# Altium footprint library Connector_PinHeader_2.54mm.PcbLib: 278 footprints (part 6 of 18)
Each footprint in its own frame and in the unit in brackets; x right, y up, seen from the top. Pads: shape width x height; smd on the part's side, far side on the other; paste and mask are expansions set on the pad; w line width, h text height; cw(c..) or ccw(c..) is an arc to the next point about the centre after c.
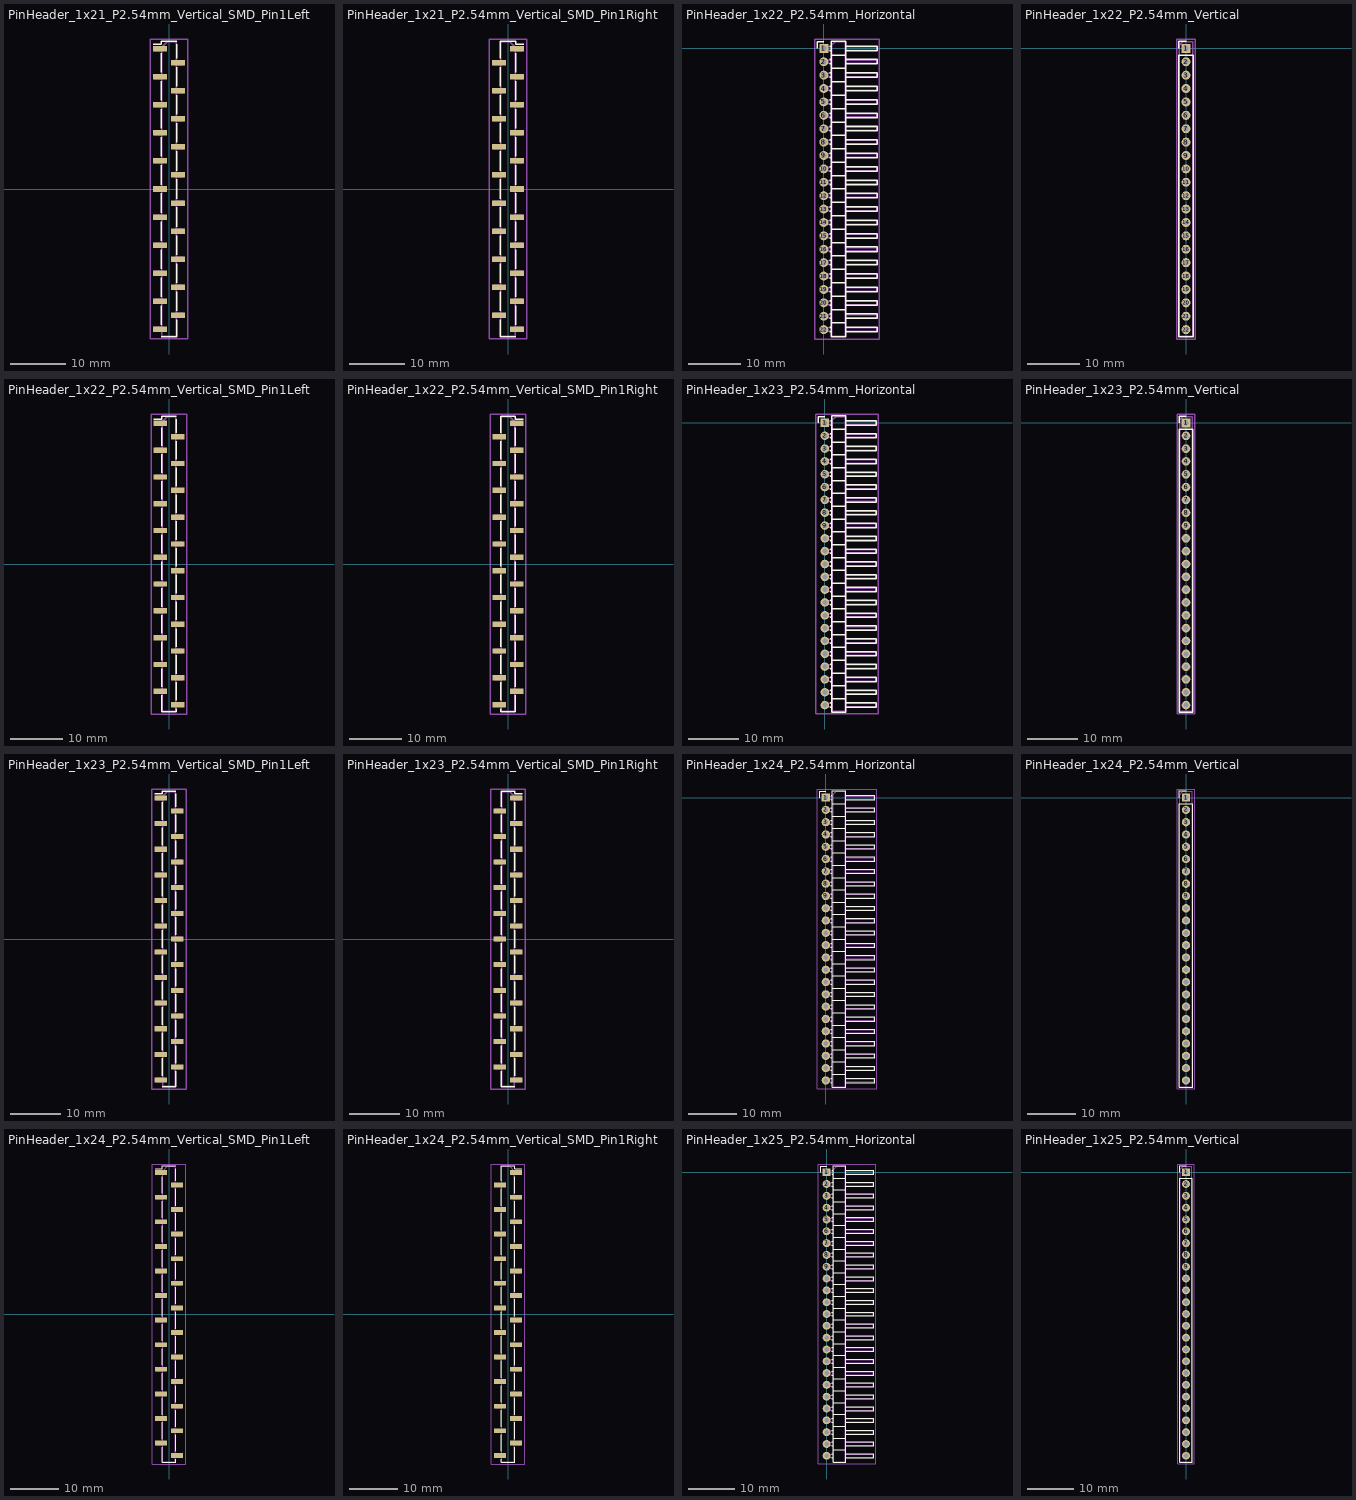
[diagram p5: the footprints below, top view; thin cyan lines are the x and y axes]

## PinHeader_1x21_P2.54mm_Vertical_SMD_Pin1Left [mm]
pads (21):
  rect 2.51x1 smd: 1(-1.655,25.4) 2(1.655,22.86) 3(-1.655,20.32) 4(1.655,17.78) 5(-1.655,15.24) 6(1.655,12.7) 7(-1.655,10.16) 8(1.655,7.62) 9(-1.655,5.08) 10(1.655,2.54) 11(-1.655,0) 12(1.655,-2.54) 13(-1.655,-5.08) 14(1.655,-7.62) 15(-1.655,-10.16) 16(1.655,-12.7) 17(-1.655,-15.24) 18(1.655,-17.78) 19(-1.655,-20.32) 20(1.655,-22.86) 21(-1.655,-25.4)
F.SilkS:
  lines w0.254: -2.85,26.21 -1.38,26.21 -1.38,26.78 1.38,26.78 ; -1.38,-26.78 1.38,-26.78 ; -1.38,-24.59 -1.38,-21.13 ; -1.38,-19.51 -1.38,-16.05 ; -1.38,-14.43 -1.38,-10.97 ; -1.38,-9.35 -1.38,-5.89 ; -1.38,-4.27 -1.38,-0.81 ; -1.38,0.81 -1.38,4.27 ; -1.38,5.89 -1.38,9.35 ; -1.38,10.97 -1.38,14.43 ; -1.38,16.05 -1.38,19.51 ; -1.38,21.13 -1.38,24.59 ; 1.38,-26.21 1.38,-26.78 ; 1.38,-23.67 1.38,-26.78 ; 1.38,-22.05 1.38,-18.59 ; 1.38,-16.97 1.38,-13.51 ; 1.38,-11.89 1.38,-8.43 ; 1.38,-6.81 1.38,-3.35 ; 1.38,-1.73 1.38,1.73 ; 1.38,3.35 1.38,6.81 ; 1.38,8.43 1.38,11.89 ; 1.38,13.51 1.38,16.97 ; 1.38,18.59 1.38,22.05 ; 1.38,23.67 1.38,26.21
Top Assembly:
  lines w0.254: -1.27,-25.72 -2.54,-25.72 -2.54,-25.08 -1.27,-25.08 ; -1.27,-20.64 -2.54,-20.64 -2.54,-20 -1.27,-20 ; -1.27,-15.56 -2.54,-15.56 -2.54,-14.92 -1.27,-14.92 ; -1.27,-10.48 -2.54,-10.48 -2.54,-9.84 -1.27,-9.84 ; -1.27,-5.4 -2.54,-5.4 -2.54,-4.76 -1.27,-4.76 ; -1.27,-0.32 -2.54,-0.32 -2.54,0.32 -1.27,0.32 ; -1.27,4.76 -2.54,4.76 -2.54,5.4 -1.27,5.4 ; -1.27,9.84 -2.54,9.84 -2.54,10.48 -1.27,10.48 ; -1.27,14.92 -2.54,14.92 -2.54,15.56 -1.27,15.56 ; -1.27,20 -2.54,20 -2.54,20.64 -1.27,20.64 ; -1.27,25.08 -2.54,25.08 -2.54,25.72 -1.27,25.72 ; 1.27,-23.18 2.54,-23.18 2.54,-22.54 1.27,-22.54 ; 1.27,-18.1 2.54,-18.1 2.54,-17.46 1.27,-17.46 ; 1.27,-13.02 2.54,-13.02 2.54,-12.38 1.27,-12.38 ; 1.27,-7.94 2.54,-7.94 2.54,-7.3 1.27,-7.3 ; 1.27,-2.86 2.54,-2.86 2.54,-2.22 1.27,-2.22 ; 1.27,2.22 2.54,2.22 2.54,2.86 1.27,2.86 ; 1.27,7.3 2.54,7.3 2.54,7.94 1.27,7.94 ; 1.27,12.38 2.54,12.38 2.54,13.02 1.27,13.02 ; 1.27,17.46 2.54,17.46 2.54,18.1 1.27,18.1 ; 1.27,22.54 2.54,22.54 2.54,23.18 1.27,23.18 ; -1.27,25.72 -1.27,-26.67 1.27,-26.67 1.27,26.67 -0.32,26.67 -1.27,25.72
  text "'.Designator'" at 0.84,-4.047 h1
Top Courtyard:
  lines w0.254: -3.41,-27.17 3.41,-27.17 3.41,27.17 -3.41,27.17 -3.41,-27.17
Top Designator:
  text ".Designator" at -7.618,-0.508 h1.52

## PinHeader_1x21_P2.54mm_Vertical_SMD_Pin1Right [mm]
pads (21):
  rect 2.51x1 smd: 1(1.655,25.4) 2(-1.655,22.86) 3(1.655,20.32) 4(-1.655,17.78) 5(1.655,15.24) 6(-1.655,12.7) 7(1.655,10.16) 8(-1.655,7.62) 9(1.655,5.08) 10(-1.655,2.54) 11(1.655,0) 12(-1.655,-2.54) 13(1.655,-5.08) 14(-1.655,-7.62) 15(1.655,-10.16) 16(-1.655,-12.7) 17(1.655,-15.24) 18(-1.655,-17.78) 19(1.655,-20.32) 20(-1.655,-22.86) 21(1.655,-25.4)
F.SilkS:
  lines w0.254: -1.38,-26.21 -1.38,-26.78 ; -1.38,-23.67 -1.38,-26.78 ; -1.38,-22.05 -1.38,-18.59 ; -1.38,-16.97 -1.38,-13.51 ; -1.38,-11.89 -1.38,-8.43 ; -1.38,-6.81 -1.38,-3.35 ; -1.38,-1.73 -1.38,1.73 ; -1.38,3.35 -1.38,6.81 ; -1.38,8.43 -1.38,11.89 ; -1.38,13.51 -1.38,16.97 ; -1.38,18.59 -1.38,22.05 ; -1.38,26.21 -1.38,23.67 -1.38,26.78 1.38,26.78 1.38,26.21 2.85,26.21 ; 1.38,-26.78 -1.38,-26.78 ; 1.38,-24.59 1.38,-21.13 ; 1.38,-19.51 1.38,-16.05 ; 1.38,-14.43 1.38,-10.97 ; 1.38,-9.35 1.38,-5.89 ; 1.38,-4.27 1.38,-0.81 ; 1.38,0.81 1.38,4.27 ; 1.38,5.89 1.38,9.35 ; 1.38,10.97 1.38,14.43 ; 1.38,16.05 1.38,19.51 ; 1.38,21.13 1.38,24.59
Top Assembly:
  lines w0.254: -1.27,-23.18 -2.54,-23.18 -2.54,-22.54 -1.27,-22.54 ; -1.27,-18.1 -2.54,-18.1 -2.54,-17.46 -1.27,-17.46 ; -1.27,-13.02 -2.54,-13.02 -2.54,-12.38 -1.27,-12.38 ; -1.27,-7.94 -2.54,-7.94 -2.54,-7.3 -1.27,-7.3 ; -1.27,-2.86 -2.54,-2.86 -2.54,-2.22 -1.27,-2.22 ; -1.27,2.22 -2.54,2.22 -2.54,2.86 -1.27,2.86 ; -1.27,7.3 -2.54,7.3 -2.54,7.94 -1.27,7.94 ; -1.27,12.38 -2.54,12.38 -2.54,13.02 -1.27,13.02 ; -1.27,17.46 -2.54,17.46 -2.54,18.1 -1.27,18.1 ; -1.27,22.54 -2.54,22.54 -2.54,23.18 -1.27,23.18 ; 1.27,-25.72 2.54,-25.72 2.54,-25.08 1.27,-25.08 ; 1.27,-20.64 2.54,-20.64 2.54,-20 1.27,-20 ; 1.27,-15.56 2.54,-15.56 2.54,-14.92 1.27,-14.92 ; 1.27,-10.48 2.54,-10.48 2.54,-9.84 1.27,-9.84 ; 1.27,-5.4 2.54,-5.4 2.54,-4.76 1.27,-4.76 ; 1.27,-0.32 2.54,-0.32 2.54,0.32 1.27,0.32 ; 1.27,4.76 2.54,4.76 2.54,5.4 1.27,5.4 ; 1.27,9.84 2.54,9.84 2.54,10.48 1.27,10.48 ; 1.27,14.92 2.54,14.92 2.54,15.56 1.27,15.56 ; 1.27,20 2.54,20 2.54,20.64 1.27,20.64 ; 1.27,25.08 2.54,25.08 2.54,25.72 1.27,25.72 ; 1.27,25.72 1.27,-26.67 -1.27,-26.67 -1.27,26.67 0.32,26.67 1.27,25.72
  text "'.Designator'" at 0.84,-4.047 h1
Top Courtyard:
  lines w0.254: -3.41,-27.17 3.41,-27.17 3.41,27.17 -3.41,27.17 -3.41,-27.17
Top Designator:
  text ".Designator" at -7.618,-0.508 h1.52

## PinHeader_1x22_P2.54mm_Horizontal [mm]
pads (22):
  rect 1.7x1.7 hole 1: 1(0,0)
  round 1.7 hole 1: 2(0,-2.54) 3(0,-5.08) 4(0,-7.62) 5(0,-10.16) 6(0,-12.7) 7(0,-15.24) 8(0,-17.78) 9(0,-20.32) 10(0,-22.86) 11(0,-25.4) 12(0,-27.94) 13(0,-30.48) 14(0,-33.02) 15(0,-35.56) 16(0,-38.1) 17(0,-40.64) 18(0,-43.18) 19(0,-45.72) 20(0,-48.26) 21(0,-50.8) 22(0,-53.34)
F.SilkS:
  lines w0.254: -1.27,0 -1.27,1.27 0,1.27 ; 1.077,-53.77 1.39,-53.77 ; 1.077,-52.91 1.39,-52.91 ; 1.077,-51.23 1.39,-51.23 ; 1.077,-50.37 1.39,-50.37 ; 1.077,-48.69 1.39,-48.69 ; 1.077,-47.83 1.39,-47.83 ; 1.077,-46.15 1.39,-46.15 ; 1.077,-45.29 1.39,-45.29 ; 1.077,-43.61 1.39,-43.61 ; 1.077,-42.75 1.39,-42.75 ; 1.077,-41.07 1.39,-41.07 ; 1.077,-40.21 1.39,-40.21 ; 1.077,-38.53 1.39,-38.53 ; 1.077,-37.67 1.39,-37.67 ; 1.077,-35.99 1.39,-35.99 ; 1.077,-35.13 1.39,-35.13 ; 1.077,-33.45 1.39,-33.45 ; 1.077,-32.59 1.39,-32.59 ; 1.077,-30.91 1.39,-30.91 ; 1.077,-30.05 1.39,-30.05 ; 1.077,-28.37 1.39,-28.37 ; 1.077,-27.51 1.39,-27.51 ; 1.077,-25.83 1.39,-25.83 ; 1.077,-24.97 1.39,-24.97 ; 1.077,-23.29 1.39,-23.29 ; 1.077,-22.43 1.39,-22.43 ; 1.077,-20.75 1.39,-20.75 ; 1.077,-19.89 1.39,-19.89 ; 1.077,-18.21 1.39,-18.21 ; 1.077,-17.35 1.39,-17.35 ; 1.077,-15.67 1.39,-15.67 ; 1.077,-14.81 1.39,-14.81 ; 1.077,-13.13 1.39,-13.13 ; 1.077,-12.27 1.39,-12.27 ; 1.077,-10.59 1.39,-10.59 ; 1.077,-9.73 1.39,-9.73 ; 1.077,-8.05 1.39,-8.05 ; 1.077,-7.19 1.39,-7.19 ; 1.077,-5.51 1.39,-5.51 ; 1.077,-4.65 1.39,-4.65 ; 1.077,-2.97 1.39,-2.97 ; 1.077,-2.11 1.39,-2.11 ; 1.16,-0.43 1.39,-0.43 ; 1.16,0.43 1.39,0.43 ; 1.39,-52.07 4.15,-52.07 ; 1.39,-49.53 4.15,-49.53 ; 1.39,-46.99 4.15,-46.99 ; 1.39,-44.45 4.15,-44.45 ; 1.39,-41.91 4.15,-41.91 ; 1.39,-39.37 4.15,-39.37 ; 1.39,-36.83 4.15,-36.83 ; 1.39,-34.29 4.15,-34.29 ; 1.39,-31.75 4.15,-31.75 ; 1.39,-29.21 4.15,-29.21 ; 1.39,-26.67 4.15,-26.67 ; 1.39,-24.13 4.15,-24.13 ; 1.39,-21.59 4.15,-21.59 ; 1.39,-19.05 4.15,-19.05 ; 1.39,-16.51 4.15,-16.51 ; 1.39,-13.97 4.15,-13.97 ; 1.39,-11.43 4.15,-11.43 ; 1.39,-8.89 4.15,-8.89 ; 1.39,-6.35 4.15,-6.35 ; 1.39,-3.81 4.15,-3.81 ; 1.39,-1.27 4.15,-1.27 ; 4.15,-53.77 10.15,-53.77 10.15,-52.91 4.15,-52.91 ; 4.15,-51.23 10.15,-51.23 10.15,-50.37 4.15,-50.37 ; 4.15,-48.69 10.15,-48.69 10.15,-47.83 4.15,-47.83 ; 4.15,-46.15 10.15,-46.15 10.15,-45.29 4.15,-45.29 ; 4.15,-43.61 10.15,-43.61 10.15,-42.75 4.15,-42.75 ; 4.15,-41.07 10.15,-41.07 10.15,-40.21 4.15,-40.21 ; 4.15,-38.53 10.15,-38.53 10.15,-37.67 4.15,-37.67 ; 4.15,-35.99 10.15,-35.99 10.15,-35.13 4.15,-35.13 ; 4.15,-33.45 10.15,-33.45 10.15,-32.59 4.15,-32.59 ; 4.15,-30.91 10.15,-30.91 10.15,-30.05 4.15,-30.05 ; 4.15,-28.37 10.15,-28.37 10.15,-27.51 4.15,-27.51 ; 4.15,-25.83 10.15,-25.83 10.15,-24.97 4.15,-24.97 ; 4.15,-23.29 10.15,-23.29 10.15,-22.43 4.15,-22.43 ; 4.15,-20.75 10.15,-20.75 10.15,-19.89 4.15,-19.89 ; 4.15,-18.21 10.15,-18.21 10.15,-17.35 4.15,-17.35 ; 4.15,-15.67 10.15,-15.67 10.15,-14.81 4.15,-14.81 ; 4.15,-13.13 10.15,-13.13 10.15,-12.27 4.15,-12.27 ; 4.15,-10.59 10.15,-10.59 10.15,-9.73 4.15,-9.73 ; 4.15,-8.05 10.15,-8.05 10.15,-7.19 4.15,-7.19 ; 4.15,-5.51 10.15,-5.51 10.15,-4.65 4.15,-4.65 ; 4.15,-2.97 10.15,-2.97 10.15,-2.11 4.15,-2.11 ; 1.39,-54.72 4.15,-54.72 4.15,1.38 1.39,1.38 1.39,-54.72 ; 4.15,-0.43 10.15,-0.43 10.15,0.43 4.15,0.43 4.15,-0.43
Top Assembly:
  lines w0.254: 1.5,-53.66 -0.32,-53.66 -0.32,-53.02 1.5,-53.02 ; 1.5,-51.12 -0.32,-51.12 -0.32,-50.48 1.5,-50.48 ; 1.5,-48.58 -0.32,-48.58 -0.32,-47.94 1.5,-47.94 ; 1.5,-46.04 -0.32,-46.04 -0.32,-45.4 1.5,-45.4 ; 1.5,-43.5 -0.32,-43.5 -0.32,-42.86 1.5,-42.86 ; 1.5,-40.96 -0.32,-40.96 -0.32,-40.32 1.5,-40.32 ; 1.5,-38.42 -0.32,-38.42 -0.32,-37.78 1.5,-37.78 ; 1.5,-35.88 -0.32,-35.88 -0.32,-35.24 1.5,-35.24 ; 1.5,-33.34 -0.32,-33.34 -0.32,-32.7 1.5,-32.7 ; 1.5,-30.8 -0.32,-30.8 -0.32,-30.16 1.5,-30.16 ; 1.5,-28.26 -0.32,-28.26 -0.32,-27.62 1.5,-27.62 ; 1.5,-25.72 -0.32,-25.72 -0.32,-25.08 1.5,-25.08 ; 1.5,-23.18 -0.32,-23.18 -0.32,-22.54 1.5,-22.54 ; 1.5,-20.64 -0.32,-20.64 -0.32,-20 1.5,-20 ; 1.5,-18.1 -0.32,-18.1 -0.32,-17.46 1.5,-17.46 ; 1.5,-15.56 -0.32,-15.56 -0.32,-14.92 1.5,-14.92 ; 1.5,-13.02 -0.32,-13.02 -0.32,-12.38 1.5,-12.38 ; 1.5,-10.48 -0.32,-10.48 -0.32,-9.84 1.5,-9.84 ; 1.5,-7.94 -0.32,-7.94 -0.32,-7.3 1.5,-7.3 ; 1.5,-5.4 -0.32,-5.4 -0.32,-4.76 1.5,-4.76 ; 1.5,-2.86 -0.32,-2.86 -0.32,-2.22 1.5,-2.22 ; 1.5,-0.32 -0.32,-0.32 -0.32,0.32 1.5,0.32 ; 4.04,-53.66 10.04,-53.66 10.04,-53.02 4.04,-53.02 ; 4.04,-51.12 10.04,-51.12 10.04,-50.48 4.04,-50.48 ; 4.04,-48.58 10.04,-48.58 10.04,-47.94 4.04,-47.94 ; 4.04,-46.04 10.04,-46.04 10.04,-45.4 4.04,-45.4 ; 4.04,-43.5 10.04,-43.5 10.04,-42.86 4.04,-42.86 ; 4.04,-40.96 10.04,-40.96 10.04,-40.32 4.04,-40.32 ; 4.04,-38.42 10.04,-38.42 10.04,-37.78 4.04,-37.78 ; 4.04,-35.88 10.04,-35.88 10.04,-35.24 4.04,-35.24 ; 4.04,-33.34 10.04,-33.34 10.04,-32.7 4.04,-32.7 ; 4.04,-30.8 10.04,-30.8 10.04,-30.16 4.04,-30.16 ; 4.04,-28.26 10.04,-28.26 10.04,-27.62 4.04,-27.62 ; 4.04,-25.72 10.04,-25.72 10.04,-25.08 4.04,-25.08 ; 4.04,-23.18 10.04,-23.18 10.04,-22.54 4.04,-22.54 ; 4.04,-20.64 10.04,-20.64 10.04,-20 4.04,-20 ; 4.04,-18.1 10.04,-18.1 10.04,-17.46 4.04,-17.46 ; 4.04,-15.56 10.04,-15.56 10.04,-14.92 4.04,-14.92 ; 4.04,-13.02 10.04,-13.02 10.04,-12.38 4.04,-12.38 ; 4.04,-10.48 10.04,-10.48 10.04,-9.84 4.04,-9.84 ; 4.04,-7.94 10.04,-7.94 10.04,-7.3 4.04,-7.3 ; 4.04,-5.4 10.04,-5.4 10.04,-4.76 4.04,-4.76 ; 4.04,-2.86 10.04,-2.86 10.04,-2.22 4.04,-2.22 ; 4.04,-0.32 10.04,-0.32 10.04,0.32 4.04,0.32 ; 1.5,-54.61 4.04,-54.61 4.04,1.27 2.135,1.27 1.5,0.635 1.5,-54.61
  text "'.Designator'" at 3.61,-30.717 h1
Top Courtyard:
  lines w0.254: -1.77,-55.12 10.54,-55.12 10.54,1.77 -1.77,1.77 -1.77,-55.12
Top Designator:
  text ".Designator" at -3.233,-27.183 h1.52

## PinHeader_1x22_P2.54mm_Vertical [mm]
pads (22):
  rect 1.7x1.7 hole 1: 1(0,0)
  round 1.7 hole 1: 2(0,-2.54) 3(0,-5.08) 4(0,-7.62) 5(0,-10.16) 6(0,-12.7) 7(0,-15.24) 8(0,-17.78) 9(0,-20.32) 10(0,-22.86) 11(0,-25.4) 12(0,-27.94) 13(0,-30.48) 14(0,-33.02) 15(0,-35.56) 16(0,-38.1) 17(0,-40.64) 18(0,-43.18) 19(0,-45.72) 20(0,-48.26) 21(0,-50.8) 22(0,-53.34)
F.SilkS:
  lines w0.254: -1.38,0 -1.38,1.38 0,1.38 ; -1.38,-54.72 1.38,-54.72 1.38,-1.27 -1.38,-1.27 -1.38,-54.72
Top Assembly:
  lines w0.254: -1.27,-54.61 1.27,-54.61 1.27,1.27 -0.635,1.27 -1.27,0.635 -1.27,-54.61
  text "'.Designator'" at 0.84,-30.717 h1
Top Courtyard:
  lines w0.254: -1.77,-55.12 1.77,-55.12 1.77,1.78 -1.77,1.78 -1.77,-55.12
Top Designator:
  text ".Designator" at -7.618,-27.178 h1.52

## PinHeader_1x22_P2.54mm_Vertical_SMD_Pin1Left [mm]
pads (22):
  rect 2.51x1 smd: 1(-1.655,26.67) 2(1.655,24.13) 3(-1.655,21.59) 4(1.655,19.05) 5(-1.655,16.51) 6(1.655,13.97) 7(-1.655,11.43) 8(1.655,8.89) 9(-1.655,6.35) 10(1.655,3.81) 11(-1.655,1.27) 12(1.655,-1.27) 13(-1.655,-3.81) 14(1.655,-6.35) 15(-1.655,-8.89) 16(1.655,-11.43) 17(-1.655,-13.97) 18(1.655,-16.51) 19(-1.655,-19.05) 20(1.655,-21.59) 21(-1.655,-24.13) 22(1.655,-26.67)
F.SilkS:
  lines w0.254: -2.85,27.48 -1.38,27.48 -1.38,28.05 1.38,28.05 ; -1.38,-24.94 -1.38,-28.05 1.38,-28.05 1.38,-27.48 ; -1.38,-23.32 -1.38,-19.86 ; -1.38,-18.24 -1.38,-14.78 ; -1.38,-13.16 -1.38,-9.7 ; -1.38,-8.08 -1.38,-4.62 ; -1.38,-3 -1.38,0.46 ; -1.38,2.08 -1.38,5.54 ; -1.38,7.16 -1.38,10.62 ; -1.38,12.24 -1.38,15.7 ; -1.38,17.32 -1.38,20.78 ; -1.38,22.4 -1.38,25.86 ; 1.38,-25.86 1.38,-22.4 ; 1.38,-20.78 1.38,-17.32 ; 1.38,-15.7 1.38,-12.24 ; 1.38,-10.62 1.38,-7.16 ; 1.38,-5.54 1.38,-2.08 ; 1.38,-0.46 1.38,3 ; 1.38,4.62 1.38,8.08 ; 1.38,9.7 1.38,13.16 ; 1.38,14.78 1.38,18.24 ; 1.38,19.86 1.38,23.32 ; 1.38,24.94 1.38,27.48
Top Assembly:
  lines w0.254: -1.27,-24.45 -2.54,-24.45 -2.54,-23.81 -1.27,-23.81 ; -1.27,-19.37 -2.54,-19.37 -2.54,-18.73 -1.27,-18.73 ; -1.27,-14.29 -2.54,-14.29 -2.54,-13.65 -1.27,-13.65 ; -1.27,-9.21 -2.54,-9.21 -2.54,-8.57 -1.27,-8.57 ; -1.27,-4.13 -2.54,-4.13 -2.54,-3.49 -1.27,-3.49 ; -1.27,0.95 -2.54,0.95 -2.54,1.59 -1.27,1.59 ; -1.27,6.03 -2.54,6.03 -2.54,6.67 -1.27,6.67 ; -1.27,11.11 -2.54,11.11 -2.54,11.75 -1.27,11.75 ; -1.27,16.19 -2.54,16.19 -2.54,16.83 -1.27,16.83 ; -1.27,21.27 -2.54,21.27 -2.54,21.91 -1.27,21.91 ; -1.27,26.35 -2.54,26.35 -2.54,26.99 -1.27,26.99 ; 1.27,-26.99 2.54,-26.99 2.54,-26.35 1.27,-26.35 ; 1.27,-21.91 2.54,-21.91 2.54,-21.27 1.27,-21.27 ; 1.27,-16.83 2.54,-16.83 2.54,-16.19 1.27,-16.19 ; 1.27,-11.75 2.54,-11.75 2.54,-11.11 1.27,-11.11 ; 1.27,-6.67 2.54,-6.67 2.54,-6.03 1.27,-6.03 ; 1.27,-1.59 2.54,-1.59 2.54,-0.95 1.27,-0.95 ; 1.27,3.49 2.54,3.49 2.54,4.13 1.27,4.13 ; 1.27,8.57 2.54,8.57 2.54,9.21 1.27,9.21 ; 1.27,13.65 2.54,13.65 2.54,14.29 1.27,14.29 ; 1.27,18.73 2.54,18.73 2.54,19.37 1.27,19.37 ; 1.27,23.81 2.54,23.81 2.54,24.45 1.27,24.45 ; -1.27,26.99 -1.27,-27.94 1.27,-27.94 1.27,27.94 -0.32,27.94 -1.27,26.99
  text "'.Designator'" at 0.84,-4.047 h1
Top Courtyard:
  lines w0.254: -3.41,-28.45 3.41,-28.45 3.41,28.45 -3.41,28.45 -3.41,-28.45
Top Designator:
  text ".Designator" at -7.618,-0.508 h1.52

## PinHeader_1x22_P2.54mm_Vertical_SMD_Pin1Right [mm]
pads (22):
  rect 2.51x1 smd: 1(1.655,26.67) 2(-1.655,24.13) 3(1.655,21.59) 4(-1.655,19.05) 5(1.655,16.51) 6(-1.655,13.97) 7(1.655,11.43) 8(-1.655,8.89) 9(1.655,6.35) 10(-1.655,3.81) 11(1.655,1.27) 12(-1.655,-1.27) 13(1.655,-3.81) 14(-1.655,-6.35) 15(1.655,-8.89) 16(-1.655,-11.43) 17(1.655,-13.97) 18(-1.655,-16.51) 19(1.655,-19.05) 20(-1.655,-21.59) 21(1.655,-24.13) 22(-1.655,-26.67)
F.SilkS:
  lines w0.254: -1.38,-27.48 -1.38,-28.05 1.38,-28.05 1.38,-24.94 ; -1.38,-25.86 -1.38,-22.4 ; -1.38,-20.78 -1.38,-17.32 ; -1.38,-15.7 -1.38,-12.24 ; -1.38,-10.62 -1.38,-7.16 ; -1.38,-5.54 -1.38,-2.08 ; -1.38,-0.46 -1.38,3 ; -1.38,4.62 -1.38,8.08 ; -1.38,9.7 -1.38,13.16 ; -1.38,14.78 -1.38,18.24 ; -1.38,19.86 -1.38,23.32 ; -1.38,27.48 -1.38,24.94 -1.38,28.05 1.38,28.05 1.38,27.48 2.85,27.48 ; 1.38,-23.32 1.38,-19.86 ; 1.38,-18.24 1.38,-14.78 ; 1.38,-13.16 1.38,-9.7 ; 1.38,-8.08 1.38,-4.62 ; 1.38,-3 1.38,0.46 ; 1.38,2.08 1.38,5.54 ; 1.38,7.16 1.38,10.62 ; 1.38,12.24 1.38,15.7 ; 1.38,17.32 1.38,20.78 ; 1.38,22.4 1.38,25.86
Top Assembly:
  lines w0.254: -1.27,-26.99 -2.54,-26.99 -2.54,-26.35 -1.27,-26.35 ; -1.27,-21.91 -2.54,-21.91 -2.54,-21.27 -1.27,-21.27 ; -1.27,-16.83 -2.54,-16.83 -2.54,-16.19 -1.27,-16.19 ; -1.27,-11.75 -2.54,-11.75 -2.54,-11.11 -1.27,-11.11 ; -1.27,-6.67 -2.54,-6.67 -2.54,-6.03 -1.27,-6.03 ; -1.27,-1.59 -2.54,-1.59 -2.54,-0.95 -1.27,-0.95 ; -1.27,3.49 -2.54,3.49 -2.54,4.13 -1.27,4.13 ; -1.27,8.57 -2.54,8.57 -2.54,9.21 -1.27,9.21 ; -1.27,13.65 -2.54,13.65 -2.54,14.29 -1.27,14.29 ; -1.27,18.73 -2.54,18.73 -2.54,19.37 -1.27,19.37 ; -1.27,23.81 -2.54,23.81 -2.54,24.45 -1.27,24.45 ; 1.27,-24.45 2.54,-24.45 2.54,-23.81 1.27,-23.81 ; 1.27,-19.37 2.54,-19.37 2.54,-18.73 1.27,-18.73 ; 1.27,-14.29 2.54,-14.29 2.54,-13.65 1.27,-13.65 ; 1.27,-9.21 2.54,-9.21 2.54,-8.57 1.27,-8.57 ; 1.27,-4.13 2.54,-4.13 2.54,-3.49 1.27,-3.49 ; 1.27,0.95 2.54,0.95 2.54,1.59 1.27,1.59 ; 1.27,6.03 2.54,6.03 2.54,6.67 1.27,6.67 ; 1.27,11.11 2.54,11.11 2.54,11.75 1.27,11.75 ; 1.27,16.19 2.54,16.19 2.54,16.83 1.27,16.83 ; 1.27,21.27 2.54,21.27 2.54,21.91 1.27,21.91 ; 1.27,26.35 2.54,26.35 2.54,26.99 1.27,26.99 ; 1.27,26.99 1.27,-27.94 -1.27,-27.94 -1.27,27.94 0.32,27.94 1.27,26.99
  text "'.Designator'" at 0.84,-4.047 h1
Top Courtyard:
  lines w0.254: -3.41,-28.45 3.41,-28.45 3.41,28.45 -3.41,28.45 -3.41,-28.45
Top Designator:
  text ".Designator" at -7.618,-0.508 h1.52

## PinHeader_1x23_P2.54mm_Horizontal [mm]
pads (23):
  rect 1.7x1.7 hole 1: 1(0,0)
  round 1.7 hole 1: 2(0,-2.54) 3(0,-5.08) 4(0,-7.62) 5(0,-10.16) 6(0,-12.7) 7(0,-15.24) 8(0,-17.78) 9(0,-20.32) 10(0,-22.86) 11(0,-25.4) 12(0,-27.94) 13(0,-30.48) 14(0,-33.02) 15(0,-35.56) 16(0,-38.1) 17(0,-40.64) 18(0,-43.18) 19(0,-45.72) 20(0,-48.26) 21(0,-50.8) 22(0,-53.34) 23(0,-55.88)
F.SilkS:
  lines w0.254: -1.27,0 -1.27,1.27 0,1.27 ; 1.077,-56.31 1.39,-56.31 ; 1.077,-55.45 1.39,-55.45 ; 1.077,-53.77 1.39,-53.77 ; 1.077,-52.91 1.39,-52.91 ; 1.077,-51.23 1.39,-51.23 ; 1.077,-50.37 1.39,-50.37 ; 1.077,-48.69 1.39,-48.69 ; 1.077,-47.83 1.39,-47.83 ; 1.077,-46.15 1.39,-46.15 ; 1.077,-45.29 1.39,-45.29 ; 1.077,-43.61 1.39,-43.61 ; 1.077,-42.75 1.39,-42.75 ; 1.077,-41.07 1.39,-41.07 ; 1.077,-40.21 1.39,-40.21 ; 1.077,-38.53 1.39,-38.53 ; 1.077,-37.67 1.39,-37.67 ; 1.077,-35.99 1.39,-35.99 ; 1.077,-35.13 1.39,-35.13 ; 1.077,-33.45 1.39,-33.45 ; 1.077,-32.59 1.39,-32.59 ; 1.077,-30.91 1.39,-30.91 ; 1.077,-30.05 1.39,-30.05 ; 1.077,-28.37 1.39,-28.37 ; 1.077,-27.51 1.39,-27.51 ; 1.077,-25.83 1.39,-25.83 ; 1.077,-24.97 1.39,-24.97 ; 1.077,-23.29 1.39,-23.29 ; 1.077,-22.43 1.39,-22.43 ; 1.077,-20.75 1.39,-20.75 ; 1.077,-19.89 1.39,-19.89 ; 1.077,-18.21 1.39,-18.21 ; 1.077,-17.35 1.39,-17.35 ; 1.077,-15.67 1.39,-15.67 ; 1.077,-14.81 1.39,-14.81 ; 1.077,-13.13 1.39,-13.13 ; 1.077,-12.27 1.39,-12.27 ; 1.077,-10.59 1.39,-10.59 ; 1.077,-9.73 1.39,-9.73 ; 1.077,-8.05 1.39,-8.05 ; 1.077,-7.19 1.39,-7.19 ; 1.077,-5.51 1.39,-5.51 ; 1.077,-4.65 1.39,-4.65 ; 1.077,-2.97 1.39,-2.97 ; 1.077,-2.11 1.39,-2.11 ; 1.16,-0.43 1.39,-0.43 ; 1.16,0.43 1.39,0.43 ; 1.39,-54.61 4.15,-54.61 ; 1.39,-52.07 4.15,-52.07 ; 1.39,-49.53 4.15,-49.53 ; 1.39,-46.99 4.15,-46.99 ; 1.39,-44.45 4.15,-44.45 ; 1.39,-41.91 4.15,-41.91 ; 1.39,-39.37 4.15,-39.37 ; 1.39,-36.83 4.15,-36.83 ; 1.39,-34.29 4.15,-34.29 ; 1.39,-31.75 4.15,-31.75 ; 1.39,-29.21 4.15,-29.21 ; 1.39,-26.67 4.15,-26.67 ; 1.39,-24.13 4.15,-24.13 ; 1.39,-21.59 4.15,-21.59 ; 1.39,-19.05 4.15,-19.05 ; 1.39,-16.51 4.15,-16.51 ; 1.39,-13.97 4.15,-13.97 ; 1.39,-11.43 4.15,-11.43 ; 1.39,-8.89 4.15,-8.89 ; 1.39,-6.35 4.15,-6.35 ; 1.39,-3.81 4.15,-3.81 ; 1.39,-1.27 4.15,-1.27 ; 4.15,-56.31 10.15,-56.31 10.15,-55.45 4.15,-55.45 ; 4.15,-53.77 10.15,-53.77 10.15,-52.91 4.15,-52.91 ; 4.15,-51.23 10.15,-51.23 10.15,-50.37 4.15,-50.37 ; 4.15,-48.69 10.15,-48.69 10.15,-47.83 4.15,-47.83 ; 4.15,-46.15 10.15,-46.15 10.15,-45.29 4.15,-45.29 ; 4.15,-43.61 10.15,-43.61 10.15,-42.75 4.15,-42.75 ; 4.15,-41.07 10.15,-41.07 10.15,-40.21 4.15,-40.21 ; 4.15,-38.53 10.15,-38.53 10.15,-37.67 4.15,-37.67 ; 4.15,-35.99 10.15,-35.99 10.15,-35.13 4.15,-35.13 ; 4.15,-33.45 10.15,-33.45 10.15,-32.59 4.15,-32.59 ; 4.15,-30.91 10.15,-30.91 10.15,-30.05 4.15,-30.05 ; 4.15,-28.37 10.15,-28.37 10.15,-27.51 4.15,-27.51 ; 4.15,-25.83 10.15,-25.83 10.15,-24.97 4.15,-24.97 ; 4.15,-23.29 10.15,-23.29 10.15,-22.43 4.15,-22.43 ; 4.15,-20.75 10.15,-20.75 10.15,-19.89 4.15,-19.89 ; 4.15,-18.21 10.15,-18.21 10.15,-17.35 4.15,-17.35 ; 4.15,-15.67 10.15,-15.67 10.15,-14.81 4.15,-14.81 ; 4.15,-13.13 10.15,-13.13 10.15,-12.27 4.15,-12.27 ; 4.15,-10.59 10.15,-10.59 10.15,-9.73 4.15,-9.73 ; 4.15,-8.05 10.15,-8.05 10.15,-7.19 4.15,-7.19 ; 4.15,-5.51 10.15,-5.51 10.15,-4.65 4.15,-4.65 ; 4.15,-2.97 10.15,-2.97 10.15,-2.11 4.15,-2.11 ; 1.39,-57.26 4.15,-57.26 4.15,1.38 1.39,1.38 1.39,-57.26 ; 4.15,-0.43 10.15,-0.43 10.15,0.43 4.15,0.43 4.15,-0.43
Top Assembly:
  lines w0.254: 1.5,-56.2 -0.32,-56.2 -0.32,-55.56 1.5,-55.56 ; 1.5,-53.66 -0.32,-53.66 -0.32,-53.02 1.5,-53.02 ; 1.5,-51.12 -0.32,-51.12 -0.32,-50.48 1.5,-50.48 ; 1.5,-48.58 -0.32,-48.58 -0.32,-47.94 1.5,-47.94 ; 1.5,-46.04 -0.32,-46.04 -0.32,-45.4 1.5,-45.4 ; 1.5,-43.5 -0.32,-43.5 -0.32,-42.86 1.5,-42.86 ; 1.5,-40.96 -0.32,-40.96 -0.32,-40.32 1.5,-40.32 ; 1.5,-38.42 -0.32,-38.42 -0.32,-37.78 1.5,-37.78 ; 1.5,-35.88 -0.32,-35.88 -0.32,-35.24 1.5,-35.24 ; 1.5,-33.34 -0.32,-33.34 -0.32,-32.7 1.5,-32.7 ; 1.5,-30.8 -0.32,-30.8 -0.32,-30.16 1.5,-30.16 ; 1.5,-28.26 -0.32,-28.26 -0.32,-27.62 1.5,-27.62 ; 1.5,-25.72 -0.32,-25.72 -0.32,-25.08 1.5,-25.08 ; 1.5,-23.18 -0.32,-23.18 -0.32,-22.54 1.5,-22.54 ; 1.5,-20.64 -0.32,-20.64 -0.32,-20 1.5,-20 ; 1.5,-18.1 -0.32,-18.1 -0.32,-17.46 1.5,-17.46 ; 1.5,-15.56 -0.32,-15.56 -0.32,-14.92 1.5,-14.92 ; 1.5,-13.02 -0.32,-13.02 -0.32,-12.38 1.5,-12.38 ; 1.5,-10.48 -0.32,-10.48 -0.32,-9.84 1.5,-9.84 ; 1.5,-7.94 -0.32,-7.94 -0.32,-7.3 1.5,-7.3 ; 1.5,-5.4 -0.32,-5.4 -0.32,-4.76 1.5,-4.76 ; 1.5,-2.86 -0.32,-2.86 -0.32,-2.22 1.5,-2.22 ; 1.5,-0.32 -0.32,-0.32 -0.32,0.32 1.5,0.32 ; 4.04,-56.2 10.04,-56.2 10.04,-55.56 4.04,-55.56 ; 4.04,-53.66 10.04,-53.66 10.04,-53.02 4.04,-53.02 ; 4.04,-51.12 10.04,-51.12 10.04,-50.48 4.04,-50.48 ; 4.04,-48.58 10.04,-48.58 10.04,-47.94 4.04,-47.94 ; 4.04,-46.04 10.04,-46.04 10.04,-45.4 4.04,-45.4 ; 4.04,-43.5 10.04,-43.5 10.04,-42.86 4.04,-42.86 ; 4.04,-40.96 10.04,-40.96 10.04,-40.32 4.04,-40.32 ; 4.04,-38.42 10.04,-38.42 10.04,-37.78 4.04,-37.78 ; 4.04,-35.88 10.04,-35.88 10.04,-35.24 4.04,-35.24 ; 4.04,-33.34 10.04,-33.34 10.04,-32.7 4.04,-32.7 ; 4.04,-30.8 10.04,-30.8 10.04,-30.16 4.04,-30.16 ; 4.04,-28.26 10.04,-28.26 10.04,-27.62 4.04,-27.62 ; 4.04,-25.72 10.04,-25.72 10.04,-25.08 4.04,-25.08 ; 4.04,-23.18 10.04,-23.18 10.04,-22.54 4.04,-22.54 ; 4.04,-20.64 10.04,-20.64 10.04,-20 4.04,-20 ; 4.04,-18.1 10.04,-18.1 10.04,-17.46 4.04,-17.46 ; 4.04,-15.56 10.04,-15.56 10.04,-14.92 4.04,-14.92 ; 4.04,-13.02 10.04,-13.02 10.04,-12.38 4.04,-12.38 ; 4.04,-10.48 10.04,-10.48 10.04,-9.84 4.04,-9.84 ; 4.04,-7.94 10.04,-7.94 10.04,-7.3 4.04,-7.3 ; 4.04,-5.4 10.04,-5.4 10.04,-4.76 4.04,-4.76 ; 4.04,-2.86 10.04,-2.86 10.04,-2.22 4.04,-2.22 ; 4.04,-0.32 10.04,-0.32 10.04,0.32 4.04,0.32 ; 1.5,-57.15 4.04,-57.15 4.04,1.27 2.135,1.27 1.5,0.635 1.5,-57.15
  text "'.Designator'" at 3.61,-31.987 h1
Top Courtyard:
  lines w0.254: -1.77,-57.65 10.54,-57.65 10.54,1.77 -1.77,1.77 -1.77,-57.65
Top Designator:
  text ".Designator" at -3.233,-28.448 h1.52

## PinHeader_1x23_P2.54mm_Vertical [mm]
pads (23):
  rect 1.7x1.7 hole 1: 1(0,0)
  round 1.7 hole 1: 2(0,-2.54) 3(0,-5.08) 4(0,-7.62) 5(0,-10.16) 6(0,-12.7) 7(0,-15.24) 8(0,-17.78) 9(0,-20.32) 10(0,-22.86) 11(0,-25.4) 12(0,-27.94) 13(0,-30.48) 14(0,-33.02) 15(0,-35.56) 16(0,-38.1) 17(0,-40.64) 18(0,-43.18) 19(0,-45.72) 20(0,-48.26) 21(0,-50.8) 22(0,-53.34) 23(0,-55.88)
F.SilkS:
  lines w0.254: -1.38,0 -1.38,1.38 0,1.38 ; -1.38,-57.26 1.38,-57.26 1.38,-1.27 -1.38,-1.27 -1.38,-57.26
Top Assembly:
  lines w0.254: -1.27,-57.15 1.27,-57.15 1.27,1.27 -0.635,1.27 -1.27,0.635 -1.27,-57.15
  text "'.Designator'" at 0.84,-31.987 h1
Top Courtyard:
  lines w0.254: -1.77,-57.65 1.77,-57.65 1.77,1.78 -1.77,1.78 -1.77,-57.65
Top Designator:
  text ".Designator" at -7.618,-28.443 h1.52

## PinHeader_1x23_P2.54mm_Vertical_SMD_Pin1Left [mm]
pads (23):
  rect 2.51x1 smd: 1(-1.655,27.94) 2(1.655,25.4) 3(-1.655,22.86) 4(1.655,20.32) 5(-1.655,17.78) 6(1.655,15.24) 7(-1.655,12.7) 8(1.655,10.16) 9(-1.655,7.62) 10(1.655,5.08) 11(-1.655,2.54) 12(1.655,0) 13(-1.655,-2.54) 14(1.655,-5.08) 15(-1.655,-7.62) 16(1.655,-10.16) 17(-1.655,-12.7) 18(1.655,-15.24) 19(-1.655,-17.78) 20(1.655,-20.32) 21(-1.655,-22.86) 22(1.655,-25.4) 23(-1.655,-27.94)
F.SilkS:
  lines w0.254: -2.85,28.75 -1.38,28.75 -1.38,29.32 1.38,29.32 ; -1.38,-29.32 1.38,-29.32 ; -1.38,-27.13 -1.38,-23.67 ; -1.38,-22.05 -1.38,-18.59 ; -1.38,-16.97 -1.38,-13.51 ; -1.38,-11.89 -1.38,-8.43 ; -1.38,-6.81 -1.38,-3.35 ; -1.38,-1.73 -1.38,1.73 ; -1.38,3.35 -1.38,6.81 ; -1.38,8.43 -1.38,11.89 ; -1.38,13.51 -1.38,16.97 ; -1.38,18.59 -1.38,22.05 ; -1.38,23.67 -1.38,27.13 ; 1.38,-28.75 1.38,-29.32 ; 1.38,-26.21 1.38,-29.32 ; 1.38,-24.59 1.38,-21.13 ; 1.38,-19.51 1.38,-16.05 ; 1.38,-14.43 1.38,-10.97 ; 1.38,-9.35 1.38,-5.89 ; 1.38,-4.27 1.38,-0.81 ; 1.38,0.81 1.38,4.27 ; 1.38,5.89 1.38,9.35 ; 1.38,10.97 1.38,14.43 ; 1.38,16.05 1.38,19.51 ; 1.38,21.13 1.38,24.59 ; 1.38,26.21 1.38,28.75
Top Assembly:
  lines w0.254: -1.27,-28.26 -2.54,-28.26 -2.54,-27.62 -1.27,-27.62 ; -1.27,-23.18 -2.54,-23.18 -2.54,-22.54 -1.27,-22.54 ; -1.27,-18.1 -2.54,-18.1 -2.54,-17.46 -1.27,-17.46 ; -1.27,-13.02 -2.54,-13.02 -2.54,-12.38 -1.27,-12.38 ; -1.27,-7.94 -2.54,-7.94 -2.54,-7.3 -1.27,-7.3 ; -1.27,-2.86 -2.54,-2.86 -2.54,-2.22 -1.27,-2.22 ; -1.27,2.22 -2.54,2.22 -2.54,2.86 -1.27,2.86 ; -1.27,7.3 -2.54,7.3 -2.54,7.94 -1.27,7.94 ; -1.27,12.38 -2.54,12.38 -2.54,13.02 -1.27,13.02 ; -1.27,17.46 -2.54,17.46 -2.54,18.1 -1.27,18.1 ; -1.27,22.54 -2.54,22.54 -2.54,23.18 -1.27,23.18 ; -1.27,27.62 -2.54,27.62 -2.54,28.26 -1.27,28.26 ; 1.27,-25.72 2.54,-25.72 2.54,-25.08 1.27,-25.08 ; 1.27,-20.64 2.54,-20.64 2.54,-20 1.27,-20 ; 1.27,-15.56 2.54,-15.56 2.54,-14.92 1.27,-14.92 ; 1.27,-10.48 2.54,-10.48 2.54,-9.84 1.27,-9.84 ; 1.27,-5.4 2.54,-5.4 2.54,-4.76 1.27,-4.76 ; 1.27,-0.32 2.54,-0.32 2.54,0.32 1.27,0.32 ; 1.27,4.76 2.54,4.76 2.54,5.4 1.27,5.4 ; 1.27,9.84 2.54,9.84 2.54,10.48 1.27,10.48 ; 1.27,14.92 2.54,14.92 2.54,15.56 1.27,15.56 ; 1.27,20 2.54,20 2.54,20.64 1.27,20.64 ; 1.27,25.08 2.54,25.08 2.54,25.72 1.27,25.72 ; -1.27,28.26 -1.27,-29.21 1.27,-29.21 1.27,29.21 -0.32,29.21 -1.27,28.26
  text "'.Designator'" at 0.84,-4.047 h1
Top Courtyard:
  lines w0.254: -3.41,-29.72 3.41,-29.72 3.41,29.72 -3.41,29.72 -3.41,-29.72
Top Designator:
  text ".Designator" at -7.618,-0.508 h1.52

## PinHeader_1x23_P2.54mm_Vertical_SMD_Pin1Right [mm]
pads (23):
  rect 2.51x1 smd: 1(1.655,27.94) 2(-1.655,25.4) 3(1.655,22.86) 4(-1.655,20.32) 5(1.655,17.78) 6(-1.655,15.24) 7(1.655,12.7) 8(-1.655,10.16) 9(1.655,7.62) 10(-1.655,5.08) 11(1.655,2.54) 12(-1.655,0) 13(1.655,-2.54) 14(-1.655,-5.08) 15(1.655,-7.62) 16(-1.655,-10.16) 17(1.655,-12.7) 18(-1.655,-15.24) 19(1.655,-17.78) 20(-1.655,-20.32) 21(1.655,-22.86) 22(-1.655,-25.4) 23(1.655,-27.94)
F.SilkS:
  lines w0.254: -1.38,-28.75 -1.38,-29.32 ; -1.38,-26.21 -1.38,-29.32 ; -1.38,-24.59 -1.38,-21.13 ; -1.38,-19.51 -1.38,-16.05 ; -1.38,-14.43 -1.38,-10.97 ; -1.38,-9.35 -1.38,-5.89 ; -1.38,-4.27 -1.38,-0.81 ; -1.38,0.81 -1.38,4.27 ; -1.38,5.89 -1.38,9.35 ; -1.38,10.97 -1.38,14.43 ; -1.38,16.05 -1.38,19.51 ; -1.38,21.13 -1.38,24.59 ; -1.38,28.75 -1.38,26.21 -1.38,29.32 1.38,29.32 1.38,28.75 2.85,28.75 ; 1.38,-29.32 -1.38,-29.32 ; 1.38,-27.13 1.38,-23.67 ; 1.38,-22.05 1.38,-18.59 ; 1.38,-16.97 1.38,-13.51 ; 1.38,-11.89 1.38,-8.43 ; 1.38,-6.81 1.38,-3.35 ; 1.38,-1.73 1.38,1.73 ; 1.38,3.35 1.38,6.81 ; 1.38,8.43 1.38,11.89 ; 1.38,13.51 1.38,16.97 ; 1.38,18.59 1.38,22.05 ; 1.38,23.67 1.38,27.13
Top Assembly:
  lines w0.254: -1.27,-25.72 -2.54,-25.72 -2.54,-25.08 -1.27,-25.08 ; -1.27,-20.64 -2.54,-20.64 -2.54,-20 -1.27,-20 ; -1.27,-15.56 -2.54,-15.56 -2.54,-14.92 -1.27,-14.92 ; -1.27,-10.48 -2.54,-10.48 -2.54,-9.84 -1.27,-9.84 ; -1.27,-5.4 -2.54,-5.4 -2.54,-4.76 -1.27,-4.76 ; -1.27,-0.32 -2.54,-0.32 -2.54,0.32 -1.27,0.32 ; -1.27,4.76 -2.54,4.76 -2.54,5.4 -1.27,5.4 ; -1.27,9.84 -2.54,9.84 -2.54,10.48 -1.27,10.48 ; -1.27,14.92 -2.54,14.92 -2.54,15.56 -1.27,15.56 ; -1.27,20 -2.54,20 -2.54,20.64 -1.27,20.64 ; -1.27,25.08 -2.54,25.08 -2.54,25.72 -1.27,25.72 ; 1.27,-28.26 2.54,-28.26 2.54,-27.62 1.27,-27.62 ; 1.27,-23.18 2.54,-23.18 2.54,-22.54 1.27,-22.54 ; 1.27,-18.1 2.54,-18.1 2.54,-17.46 1.27,-17.46 ; 1.27,-13.02 2.54,-13.02 2.54,-12.38 1.27,-12.38 ; 1.27,-7.94 2.54,-7.94 2.54,-7.3 1.27,-7.3 ; 1.27,-2.86 2.54,-2.86 2.54,-2.22 1.27,-2.22 ; 1.27,2.22 2.54,2.22 2.54,2.86 1.27,2.86 ; 1.27,7.3 2.54,7.3 2.54,7.94 1.27,7.94 ; 1.27,12.38 2.54,12.38 2.54,13.02 1.27,13.02 ; 1.27,17.46 2.54,17.46 2.54,18.1 1.27,18.1 ; 1.27,22.54 2.54,22.54 2.54,23.18 1.27,23.18 ; 1.27,27.62 2.54,27.62 2.54,28.26 1.27,28.26 ; 1.27,28.26 1.27,-29.21 -1.27,-29.21 -1.27,29.21 0.32,29.21 1.27,28.26
  text "'.Designator'" at 0.84,-4.047 h1
Top Courtyard:
  lines w0.254: -3.41,-29.72 3.41,-29.72 3.41,29.72 -3.41,29.72 -3.41,-29.72
Top Designator:
  text ".Designator" at -7.618,-0.508 h1.52

## PinHeader_1x24_P2.54mm_Horizontal [mm]
pads (24):
  rect 1.7x1.7 hole 1: 1(0,0)
  round 1.7 hole 1: 2(0,-2.54) 3(0,-5.08) 4(0,-7.62) 5(0,-10.16) 6(0,-12.7) 7(0,-15.24) 8(0,-17.78) 9(0,-20.32) 10(0,-22.86) 11(0,-25.4) 12(0,-27.94) 13(0,-30.48) 14(0,-33.02) 15(0,-35.56) 16(0,-38.1) 17(0,-40.64) 18(0,-43.18) 19(0,-45.72) 20(0,-48.26) 21(0,-50.8) 22(0,-53.34) 23(0,-55.88) 24(0,-58.42)
F.SilkS:
  lines w0.254: -1.27,0 -1.27,1.27 0,1.27 ; 1.077,-58.85 1.39,-58.85 ; 1.077,-57.99 1.39,-57.99 ; 1.077,-56.31 1.39,-56.31 ; 1.077,-55.45 1.39,-55.45 ; 1.077,-53.77 1.39,-53.77 ; 1.077,-52.91 1.39,-52.91 ; 1.077,-51.23 1.39,-51.23 ; 1.077,-50.37 1.39,-50.37 ; 1.077,-48.69 1.39,-48.69 ; 1.077,-47.83 1.39,-47.83 ; 1.077,-46.15 1.39,-46.15 ; 1.077,-45.29 1.39,-45.29 ; 1.077,-43.61 1.39,-43.61 ; 1.077,-42.75 1.39,-42.75 ; 1.077,-41.07 1.39,-41.07 ; 1.077,-40.21 1.39,-40.21 ; 1.077,-38.53 1.39,-38.53 ; 1.077,-37.67 1.39,-37.67 ; 1.077,-35.99 1.39,-35.99 ; 1.077,-35.13 1.39,-35.13 ; 1.077,-33.45 1.39,-33.45 ; 1.077,-32.59 1.39,-32.59 ; 1.077,-30.91 1.39,-30.91 ; 1.077,-30.05 1.39,-30.05 ; 1.077,-28.37 1.39,-28.37 ; 1.077,-27.51 1.39,-27.51 ; 1.077,-25.83 1.39,-25.83 ; 1.077,-24.97 1.39,-24.97 ; 1.077,-23.29 1.39,-23.29 ; 1.077,-22.43 1.39,-22.43 ; 1.077,-20.75 1.39,-20.75 ; 1.077,-19.89 1.39,-19.89 ; 1.077,-18.21 1.39,-18.21 ; 1.077,-17.35 1.39,-17.35 ; 1.077,-15.67 1.39,-15.67 ; 1.077,-14.81 1.39,-14.81 ; 1.077,-13.13 1.39,-13.13 ; 1.077,-12.27 1.39,-12.27 ; 1.077,-10.59 1.39,-10.59 ; 1.077,-9.73 1.39,-9.73 ; 1.077,-8.05 1.39,-8.05 ; 1.077,-7.19 1.39,-7.19 ; 1.077,-5.51 1.39,-5.51 ; 1.077,-4.65 1.39,-4.65 ; 1.077,-2.97 1.39,-2.97 ; 1.077,-2.11 1.39,-2.11 ; 1.16,-0.43 1.39,-0.43 ; 1.16,0.43 1.39,0.43 ; 1.39,-57.15 4.15,-57.15 ; 1.39,-54.61 4.15,-54.61 ; 1.39,-52.07 4.15,-52.07 ; 1.39,-49.53 4.15,-49.53 ; 1.39,-46.99 4.15,-46.99 ; 1.39,-44.45 4.15,-44.45 ; 1.39,-41.91 4.15,-41.91 ; 1.39,-39.37 4.15,-39.37 ; 1.39,-36.83 4.15,-36.83 ; 1.39,-34.29 4.15,-34.29 ; 1.39,-31.75 4.15,-31.75 ; 1.39,-29.21 4.15,-29.21 ; 1.39,-26.67 4.15,-26.67 ; 1.39,-24.13 4.15,-24.13 ; 1.39,-21.59 4.15,-21.59 ; 1.39,-19.05 4.15,-19.05 ; 1.39,-16.51 4.15,-16.51 ; 1.39,-13.97 4.15,-13.97 ; 1.39,-11.43 4.15,-11.43 ; 1.39,-8.89 4.15,-8.89 ; 1.39,-6.35 4.15,-6.35 ; 1.39,-3.81 4.15,-3.81 ; 1.39,-1.27 4.15,-1.27 ; 4.15,-58.85 10.15,-58.85 10.15,-57.99 4.15,-57.99 ; 4.15,-56.31 10.15,-56.31 10.15,-55.45 4.15,-55.45 ; 4.15,-53.77 10.15,-53.77 10.15,-52.91 4.15,-52.91 ; 4.15,-51.23 10.15,-51.23 10.15,-50.37 4.15,-50.37 ; 4.15,-48.69 10.15,-48.69 10.15,-47.83 4.15,-47.83 ; 4.15,-46.15 10.15,-46.15 10.15,-45.29 4.15,-45.29 ; 4.15,-43.61 10.15,-43.61 10.15,-42.75 4.15,-42.75 ; 4.15,-41.07 10.15,-41.07 10.15,-40.21 4.15,-40.21 ; 4.15,-38.53 10.15,-38.53 10.15,-37.67 4.15,-37.67 ; 4.15,-35.99 10.15,-35.99 10.15,-35.13 4.15,-35.13 ; 4.15,-33.45 10.15,-33.45 10.15,-32.59 4.15,-32.59 ; 4.15,-30.91 10.15,-30.91 10.15,-30.05 4.15,-30.05 ; 4.15,-28.37 10.15,-28.37 10.15,-27.51 4.15,-27.51 ; 4.15,-25.83 10.15,-25.83 10.15,-24.97 4.15,-24.97 ; 4.15,-23.29 10.15,-23.29 10.15,-22.43 4.15,-22.43 ; 4.15,-20.75 10.15,-20.75 10.15,-19.89 4.15,-19.89 ; 4.15,-18.21 10.15,-18.21 10.15,-17.35 4.15,-17.35 ; 4.15,-15.67 10.15,-15.67 10.15,-14.81 4.15,-14.81 ; 4.15,-13.13 10.15,-13.13 10.15,-12.27 4.15,-12.27 ; 4.15,-10.59 10.15,-10.59 10.15,-9.73 4.15,-9.73 ; 4.15,-8.05 10.15,-8.05 10.15,-7.19 4.15,-7.19 ; 4.15,-5.51 10.15,-5.51 10.15,-4.65 4.15,-4.65 ; 4.15,-2.97 10.15,-2.97 10.15,-2.11 4.15,-2.11 ; 1.39,-59.8 4.15,-59.8 4.15,1.38 1.39,1.38 1.39,-59.8 ; 4.15,-0.43 10.15,-0.43 10.15,0.43 4.15,0.43 4.15,-0.43
Top Assembly:
  lines w0.254: 1.5,-58.74 -0.32,-58.74 -0.32,-58.1 1.5,-58.1 ; 1.5,-56.2 -0.32,-56.2 -0.32,-55.56 1.5,-55.56 ; 1.5,-53.66 -0.32,-53.66 -0.32,-53.02 1.5,-53.02 ; 1.5,-51.12 -0.32,-51.12 -0.32,-50.48 1.5,-50.48 ; 1.5,-48.58 -0.32,-48.58 -0.32,-47.94 1.5,-47.94 ; 1.5,-46.04 -0.32,-46.04 -0.32,-45.4 1.5,-45.4 ; 1.5,-43.5 -0.32,-43.5 -0.32,-42.86 1.5,-42.86 ; 1.5,-40.96 -0.32,-40.96 -0.32,-40.32 1.5,-40.32 ; 1.5,-38.42 -0.32,-38.42 -0.32,-37.78 1.5,-37.78 ; 1.5,-35.88 -0.32,-35.88 -0.32,-35.24 1.5,-35.24 ; 1.5,-33.34 -0.32,-33.34 -0.32,-32.7 1.5,-32.7 ; 1.5,-30.8 -0.32,-30.8 -0.32,-30.16 1.5,-30.16 ; 1.5,-28.26 -0.32,-28.26 -0.32,-27.62 1.5,-27.62 ; 1.5,-25.72 -0.32,-25.72 -0.32,-25.08 1.5,-25.08 ; 1.5,-23.18 -0.32,-23.18 -0.32,-22.54 1.5,-22.54 ; 1.5,-20.64 -0.32,-20.64 -0.32,-20 1.5,-20 ; 1.5,-18.1 -0.32,-18.1 -0.32,-17.46 1.5,-17.46 ; 1.5,-15.56 -0.32,-15.56 -0.32,-14.92 1.5,-14.92 ; 1.5,-13.02 -0.32,-13.02 -0.32,-12.38 1.5,-12.38 ; 1.5,-10.48 -0.32,-10.48 -0.32,-9.84 1.5,-9.84 ; 1.5,-7.94 -0.32,-7.94 -0.32,-7.3 1.5,-7.3 ; 1.5,-5.4 -0.32,-5.4 -0.32,-4.76 1.5,-4.76 ; 1.5,-2.86 -0.32,-2.86 -0.32,-2.22 1.5,-2.22 ; 1.5,-0.32 -0.32,-0.32 -0.32,0.32 1.5,0.32 ; 4.04,-58.74 10.04,-58.74 10.04,-58.1 4.04,-58.1 ; 4.04,-56.2 10.04,-56.2 10.04,-55.56 4.04,-55.56 ; 4.04,-53.66 10.04,-53.66 10.04,-53.02 4.04,-53.02 ; 4.04,-51.12 10.04,-51.12 10.04,-50.48 4.04,-50.48 ; 4.04,-48.58 10.04,-48.58 10.04,-47.94 4.04,-47.94 ; 4.04,-46.04 10.04,-46.04 10.04,-45.4 4.04,-45.4 ; 4.04,-43.5 10.04,-43.5 10.04,-42.86 4.04,-42.86 ; 4.04,-40.96 10.04,-40.96 10.04,-40.32 4.04,-40.32 ; 4.04,-38.42 10.04,-38.42 10.04,-37.78 4.04,-37.78 ; 4.04,-35.88 10.04,-35.88 10.04,-35.24 4.04,-35.24 ; 4.04,-33.34 10.04,-33.34 10.04,-32.7 4.04,-32.7 ; 4.04,-30.8 10.04,-30.8 10.04,-30.16 4.04,-30.16 ; 4.04,-28.26 10.04,-28.26 10.04,-27.62 4.04,-27.62 ; 4.04,-25.72 10.04,-25.72 10.04,-25.08 4.04,-25.08 ; 4.04,-23.18 10.04,-23.18 10.04,-22.54 4.04,-22.54 ; 4.04,-20.64 10.04,-20.64 10.04,-20 4.04,-20 ; 4.04,-18.1 10.04,-18.1 10.04,-17.46 4.04,-17.46 ; 4.04,-15.56 10.04,-15.56 10.04,-14.92 4.04,-14.92 ; 4.04,-13.02 10.04,-13.02 10.04,-12.38 4.04,-12.38 ; 4.04,-10.48 10.04,-10.48 10.04,-9.84 4.04,-9.84 ; 4.04,-7.94 10.04,-7.94 10.04,-7.3 4.04,-7.3 ; 4.04,-5.4 10.04,-5.4 10.04,-4.76 4.04,-4.76 ; 4.04,-2.86 10.04,-2.86 10.04,-2.22 4.04,-2.22 ; 4.04,-0.32 10.04,-0.32 10.04,0.32 4.04,0.32 ; 1.5,-59.69 4.04,-59.69 4.04,1.27 2.135,1.27 1.5,0.635 1.5,-59.69
  text "'.Designator'" at 3.61,-33.257 h1
Top Courtyard:
  lines w0.254: -1.77,-60.19 10.54,-60.19 10.54,1.77 -1.77,1.77 -1.77,-60.19
Top Designator:
  text ".Designator" at -3.233,-29.718 h1.52

## PinHeader_1x24_P2.54mm_Vertical [mm]
pads (24):
  rect 1.7x1.7 hole 1: 1(0,0)
  round 1.7 hole 1: 2(0,-2.54) 3(0,-5.08) 4(0,-7.62) 5(0,-10.16) 6(0,-12.7) 7(0,-15.24) 8(0,-17.78) 9(0,-20.32) 10(0,-22.86) 11(0,-25.4) 12(0,-27.94) 13(0,-30.48) 14(0,-33.02) 15(0,-35.56) 16(0,-38.1) 17(0,-40.64) 18(0,-43.18) 19(0,-45.72) 20(0,-48.26) 21(0,-50.8) 22(0,-53.34) 23(0,-55.88) 24(0,-58.42)
F.SilkS:
  lines w0.254: -1.38,0 -1.38,1.38 0,1.38 ; -1.38,-59.8 1.38,-59.8 1.38,-1.27 -1.38,-1.27 -1.38,-59.8
Top Assembly:
  lines w0.254: -1.27,-59.69 1.27,-59.69 1.27,1.27 -0.635,1.27 -1.27,0.635 -1.27,-59.69
  text "'.Designator'" at 0.84,-33.257 h1
Top Courtyard:
  lines w0.254: -1.77,-60.19 1.77,-60.19 1.77,1.78 -1.77,1.78 -1.77,-60.19
Top Designator:
  text ".Designator" at -7.618,-29.713 h1.52

## PinHeader_1x24_P2.54mm_Vertical_SMD_Pin1Left [mm]
pads (24):
  rect 2.51x1 smd: 1(-1.655,29.21) 2(1.655,26.67) 3(-1.655,24.13) 4(1.655,21.59) 5(-1.655,19.05) 6(1.655,16.51) 7(-1.655,13.97) 8(1.655,11.43) 9(-1.655,8.89) 10(1.655,6.35) 11(-1.655,3.81) 12(1.655,1.27) 13(-1.655,-1.27) 14(1.655,-3.81) 15(-1.655,-6.35) 16(1.655,-8.89) 17(-1.655,-11.43) 18(1.655,-13.97) 19(-1.655,-16.51) 20(1.655,-19.05) 21(-1.655,-21.59) 22(1.655,-24.13) 23(-1.655,-26.67) 24(1.655,-29.21)
F.SilkS:
  lines w0.254: -2.85,30.02 -1.38,30.02 -1.38,30.59 1.38,30.59 ; -1.38,-27.48 -1.38,-30.59 1.38,-30.59 1.38,-30.02 ; -1.38,-25.86 -1.38,-22.4 ; -1.38,-20.78 -1.38,-17.32 ; -1.38,-15.7 -1.38,-12.24 ; -1.38,-10.62 -1.38,-7.16 ; -1.38,-5.54 -1.38,-2.08 ; -1.38,-0.46 -1.38,3 ; -1.38,4.62 -1.38,8.08 ; -1.38,9.7 -1.38,13.16 ; -1.38,14.78 -1.38,18.24 ; -1.38,19.86 -1.38,23.32 ; -1.38,24.94 -1.38,28.4 ; 1.38,-28.4 1.38,-24.94 ; 1.38,-23.32 1.38,-19.86 ; 1.38,-18.24 1.38,-14.78 ; 1.38,-13.16 1.38,-9.7 ; 1.38,-8.08 1.38,-4.62 ; 1.38,-3 1.38,0.46 ; 1.38,2.08 1.38,5.54 ; 1.38,7.16 1.38,10.62 ; 1.38,12.24 1.38,15.7 ; 1.38,17.32 1.38,20.78 ; 1.38,22.4 1.38,25.86 ; 1.38,27.48 1.38,30.02
Top Assembly:
  lines w0.254: -1.27,-26.99 -2.54,-26.99 -2.54,-26.35 -1.27,-26.35 ; -1.27,-21.91 -2.54,-21.91 -2.54,-21.27 -1.27,-21.27 ; -1.27,-16.83 -2.54,-16.83 -2.54,-16.19 -1.27,-16.19 ; -1.27,-11.75 -2.54,-11.75 -2.54,-11.11 -1.27,-11.11 ; -1.27,-6.67 -2.54,-6.67 -2.54,-6.03 -1.27,-6.03 ; -1.27,-1.59 -2.54,-1.59 -2.54,-0.95 -1.27,-0.95 ; -1.27,3.49 -2.54,3.49 -2.54,4.13 -1.27,4.13 ; -1.27,8.57 -2.54,8.57 -2.54,9.21 -1.27,9.21 ; -1.27,13.65 -2.54,13.65 -2.54,14.29 -1.27,14.29 ; -1.27,18.73 -2.54,18.73 -2.54,19.37 -1.27,19.37 ; -1.27,23.81 -2.54,23.81 -2.54,24.45 -1.27,24.45 ; -1.27,28.89 -2.54,28.89 -2.54,29.53 -1.27,29.53 ; 1.27,-29.53 2.54,-29.53 2.54,-28.89 1.27,-28.89 ; 1.27,-24.45 2.54,-24.45 2.54,-23.81 1.27,-23.81 ; 1.27,-19.37 2.54,-19.37 2.54,-18.73 1.27,-18.73 ; 1.27,-14.29 2.54,-14.29 2.54,-13.65 1.27,-13.65 ; 1.27,-9.21 2.54,-9.21 2.54,-8.57 1.27,-8.57 ; 1.27,-4.13 2.54,-4.13 2.54,-3.49 1.27,-3.49 ; 1.27,0.95 2.54,0.95 2.54,1.59 1.27,1.59 ; 1.27,6.03 2.54,6.03 2.54,6.67 1.27,6.67 ; 1.27,11.11 2.54,11.11 2.54,11.75 1.27,11.75 ; 1.27,16.19 2.54,16.19 2.54,16.83 1.27,16.83 ; 1.27,21.27 2.54,21.27 2.54,21.91 1.27,21.91 ; 1.27,26.35 2.54,26.35 2.54,26.99 1.27,26.99 ; -1.27,29.53 -1.27,-30.48 1.27,-30.48 1.27,30.48 -0.32,30.48 -1.27,29.53
  text "'.Designator'" at 0.84,-4.047 h1
Top Courtyard:
  lines w0.254: -3.41,-30.99 3.41,-30.99 3.41,30.99 -3.41,30.99 -3.41,-30.99
Top Designator:
  text ".Designator" at -7.618,-0.508 h1.52

## PinHeader_1x24_P2.54mm_Vertical_SMD_Pin1Right [mm]
pads (24):
  rect 2.51x1 smd: 1(1.655,29.21) 2(-1.655,26.67) 3(1.655,24.13) 4(-1.655,21.59) 5(1.655,19.05) 6(-1.655,16.51) 7(1.655,13.97) 8(-1.655,11.43) 9(1.655,8.89) 10(-1.655,6.35) 11(1.655,3.81) 12(-1.655,1.27) 13(1.655,-1.27) 14(-1.655,-3.81) 15(1.655,-6.35) 16(-1.655,-8.89) 17(1.655,-11.43) 18(-1.655,-13.97) 19(1.655,-16.51) 20(-1.655,-19.05) 21(1.655,-21.59) 22(-1.655,-24.13) 23(1.655,-26.67) 24(-1.655,-29.21)
F.SilkS:
  lines w0.254: -1.38,-30.02 -1.38,-30.59 1.38,-30.59 1.38,-27.48 ; -1.38,-28.4 -1.38,-24.94 ; -1.38,-23.32 -1.38,-19.86 ; -1.38,-18.24 -1.38,-14.78 ; -1.38,-13.16 -1.38,-9.7 ; -1.38,-8.08 -1.38,-4.62 ; -1.38,-3 -1.38,0.46 ; -1.38,2.08 -1.38,5.54 ; -1.38,7.16 -1.38,10.62 ; -1.38,12.24 -1.38,15.7 ; -1.38,17.32 -1.38,20.78 ; -1.38,22.4 -1.38,25.86 ; -1.38,30.02 -1.38,27.48 -1.38,30.59 1.38,30.59 1.38,30.02 2.85,30.02 ; 1.38,-25.86 1.38,-22.4 ; 1.38,-20.78 1.38,-17.32 ; 1.38,-15.7 1.38,-12.24 ; 1.38,-10.62 1.38,-7.16 ; 1.38,-5.54 1.38,-2.08 ; 1.38,-0.46 1.38,3 ; 1.38,4.62 1.38,8.08 ; 1.38,9.7 1.38,13.16 ; 1.38,14.78 1.38,18.24 ; 1.38,19.86 1.38,23.32 ; 1.38,24.94 1.38,28.4
Top Assembly:
  lines w0.254: -1.27,-29.53 -2.54,-29.53 -2.54,-28.89 -1.27,-28.89 ; -1.27,-24.45 -2.54,-24.45 -2.54,-23.81 -1.27,-23.81 ; -1.27,-19.37 -2.54,-19.37 -2.54,-18.73 -1.27,-18.73 ; -1.27,-14.29 -2.54,-14.29 -2.54,-13.65 -1.27,-13.65 ; -1.27,-9.21 -2.54,-9.21 -2.54,-8.57 -1.27,-8.57 ; -1.27,-4.13 -2.54,-4.13 -2.54,-3.49 -1.27,-3.49 ; -1.27,0.95 -2.54,0.95 -2.54,1.59 -1.27,1.59 ; -1.27,6.03 -2.54,6.03 -2.54,6.67 -1.27,6.67 ; -1.27,11.11 -2.54,11.11 -2.54,11.75 -1.27,11.75 ; -1.27,16.19 -2.54,16.19 -2.54,16.83 -1.27,16.83 ; -1.27,21.27 -2.54,21.27 -2.54,21.91 -1.27,21.91 ; -1.27,26.35 -2.54,26.35 -2.54,26.99 -1.27,26.99 ; 1.27,-26.99 2.54,-26.99 2.54,-26.35 1.27,-26.35 ; 1.27,-21.91 2.54,-21.91 2.54,-21.27 1.27,-21.27 ; 1.27,-16.83 2.54,-16.83 2.54,-16.19 1.27,-16.19 ; 1.27,-11.75 2.54,-11.75 2.54,-11.11 1.27,-11.11 ; 1.27,-6.67 2.54,-6.67 2.54,-6.03 1.27,-6.03 ; 1.27,-1.59 2.54,-1.59 2.54,-0.95 1.27,-0.95 ; 1.27,3.49 2.54,3.49 2.54,4.13 1.27,4.13 ; 1.27,8.57 2.54,8.57 2.54,9.21 1.27,9.21 ; 1.27,13.65 2.54,13.65 2.54,14.29 1.27,14.29 ; 1.27,18.73 2.54,18.73 2.54,19.37 1.27,19.37 ; 1.27,23.81 2.54,23.81 2.54,24.45 1.27,24.45 ; 1.27,28.89 2.54,28.89 2.54,29.53 1.27,29.53 ; 1.27,29.53 1.27,-30.48 -1.27,-30.48 -1.27,30.48 0.32,30.48 1.27,29.53
  text "'.Designator'" at 0.84,-4.047 h1
Top Courtyard:
  lines w0.254: -3.41,-30.99 3.41,-30.99 3.41,30.99 -3.41,30.99 -3.41,-30.99
Top Designator:
  text ".Designator" at -7.618,-0.508 h1.52

## PinHeader_1x25_P2.54mm_Horizontal [mm]
pads (25):
  rect 1.7x1.7 hole 1: 1(0,0)
  round 1.7 hole 1: 2(0,-2.54) 3(0,-5.08) 4(0,-7.62) 5(0,-10.16) 6(0,-12.7) 7(0,-15.24) 8(0,-17.78) 9(0,-20.32) 10(0,-22.86) 11(0,-25.4) 12(0,-27.94) 13(0,-30.48) 14(0,-33.02) 15(0,-35.56) 16(0,-38.1) 17(0,-40.64) 18(0,-43.18) 19(0,-45.72) 20(0,-48.26) 21(0,-50.8) 22(0,-53.34) 23(0,-55.88) 24(0,-58.42) 25(0,-60.96)
F.SilkS:
  drawing of 156 lines, arcs and shapes, not listed
Top Assembly:
  drawing of 155 lines, arcs and shapes, not listed
  text "'.Designator'" at 3.61,-34.527 h1
Top Courtyard:
  lines w0.254: -1.77,-62.73 10.54,-62.73 10.54,1.77 -1.77,1.77 -1.77,-62.73
Top Designator:
  text ".Designator" at -3.233,-30.988 h1.52

## PinHeader_1x25_P2.54mm_Vertical [mm]
pads (25):
  rect 1.7x1.7 hole 1: 1(0,0)
  round 1.7 hole 1: 2(0,-2.54) 3(0,-5.08) 4(0,-7.62) 5(0,-10.16) 6(0,-12.7) 7(0,-15.24) 8(0,-17.78) 9(0,-20.32) 10(0,-22.86) 11(0,-25.4) 12(0,-27.94) 13(0,-30.48) 14(0,-33.02) 15(0,-35.56) 16(0,-38.1) 17(0,-40.64) 18(0,-43.18) 19(0,-45.72) 20(0,-48.26) 21(0,-50.8) 22(0,-53.34) 23(0,-55.88) 24(0,-58.42) 25(0,-60.96)
F.SilkS:
  lines w0.254: -1.38,0 -1.38,1.38 0,1.38 ; -1.38,-62.34 1.38,-62.34 1.38,-1.27 -1.38,-1.27 -1.38,-62.34
Top Assembly:
  lines w0.254: -1.27,-62.23 1.27,-62.23 1.27,1.27 -0.635,1.27 -1.27,0.635 -1.27,-62.23
  text "'.Designator'" at 0.84,-34.527 h1
Top Courtyard:
  lines w0.254: -1.77,-62.73 1.77,-62.73 1.77,1.77 -1.77,1.77 -1.77,-62.73
Top Designator:
  text ".Designator" at -7.618,-30.988 h1.52